# Altium footprint library uson_6_p50_145x100x60_l30x20.PcbLib: 1 footprints
Each footprint in its own frame and in the unit in brackets; x right, y up, seen from the top. Pads: shape width x height; smd on the part's side, far side on the other; paste and mask are expansions set on the pad; w line width, h text height; cw(c..) or ccw(c..) is an arc to the next point about the centre after c.
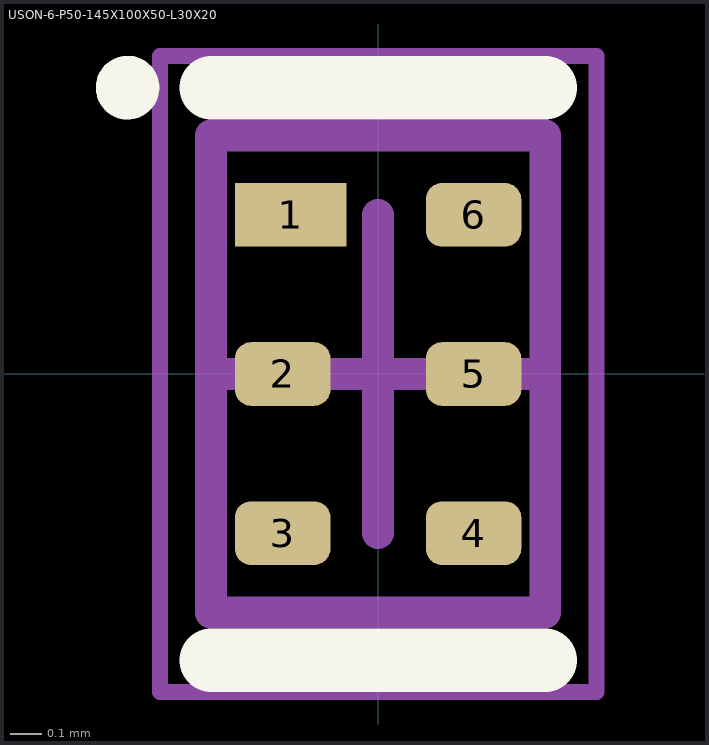
[diagram p0: the footprint, top view; thin cyan lines are the x and y axes]

## USON-6-P50-145X100X50-L30X20 [mm] "SON, 6-Leads, Body 1,45x1,00mm, Pitch 0,50mm, IPC Medium Density"
height 0.6
pads (6):
  rect 0.35x0.2 smd: 1(-0.275,0.5)
  rrect50% 0.3x0.2 smd: 2(-0.3,0) 3(-0.3,-0.5) 4(0.3,-0.5) 5(0.3,0) 6(0.3,0.5)
Top Overlay:
  circle w0.1: c-0.787,0.9 r0.05
  lines w0.2: -0.525,-0.9 0.525,-0.9 ; -0.525,0.9 0.525,0.9
Top Comment:
  text ".Comment" at 1,1.3 h1.2
Top Designator:
  text ".Designator" at -0.5,1.3 h1.2
Top Component Outline:
  lines w0.1: -0.525,-0.75 -0.525,0.75 0.525,0.75 0.525,-0.75 -0.525,-0.75
Top Courtyard (Mech15):
  lines w0.05: -0.686,-1 -0.686,1 0.686,1 0.686,-1 -0.686,-1
  lines w0.1: -0.5,0 0.5,0 ; 0,-0.5 0,0.5
3D body "SON-6.STEP": height 0.6, standoff 0, extent -0.5,-0.725 0.5,0.725